# EAGLE library part I__4555 (library ..SMD)
Dual binary 1 of 4 DECODER/DEMULTIPLEXER
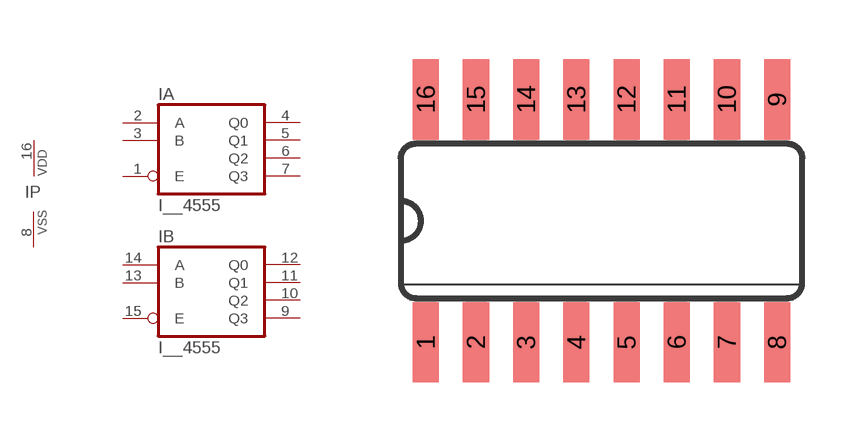
[diagram p128: symbol with the pads of SO16; footprint SO16]

Designator prefix I; gates A=4555 B=4555 P=PWRN

## I__4555D  [SO16]
1  A:E  in
2  A:A  in
3  A:B  in
4  A:Q0  out
5  A:Q1  out
6  A:Q2  out
7  A:Q3  out
8  P:VSS  pwr
9  B:Q3  out
10  B:Q2  out
11  B:Q1  out
12  B:Q0  out
13  B:B  in
14  B:A  in
15  B:E  in
16  P:VDD  pwr

## Footprint SO16 (pad centres in mm)
Small Outline Package 16
smd 0.66 x 2.032: 1 -4.445,-3.073; 2 -3.175,-3.073; 3 -1.905,-3.073; 4 -0.635,-3.073; 5 0.635,-3.073; 6 1.905,-3.073; 7 3.175,-3.073; 8 4.445,-3.073; 9 4.445,3.073; 10 3.175,3.073; 11 1.905,3.073; 12 0.635,3.073; 13 -0.635,3.073; 14 -1.905,3.073; 15 -3.175,3.073; 16 -4.445,3.073